# Altium schematic symbol library 25MF105KA13216.SchLib: 1 symbol
Pins are listed as number, name and electrical type; pins without a type are passive.

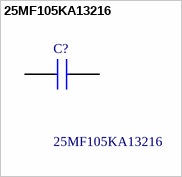
[diagram p0: symbol 25MF105KA13216]

## 25MF105KA13216
designator C?
Film Capacitors 3216 25VDC 1uF 10%; Manufacturer_Name: Rubycon; Geometry.Height: 1.2mm; Mouser Part Number: *; Mouser Price/Stock: *; Manufacturer_Part_Number: 25MF105KA13216; Datasheet Link: https://www.rubycon.co.jp/wp-content/uploads/catalog-pmlcap/MF.pdf
footprint CAPC3216X120N
pins: 1, 2